# Altium integrated library Miscellaneous.IntLib: 6 symbols
Pins are listed as number, name and electrical type; pins without a type are passive.

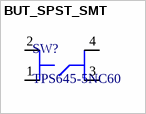
[diagram p0: symbol BUT_SPST_SMT]

## BUT_SPST_SMT
designator SW?, comment TPS645-5NC60
Tactile Switch/Push Button Switch ROHS
footprint TPS645-5NC60 (Tactile Switch/Push Button Switch ROHS)
pins: 1, 2, 3, 4


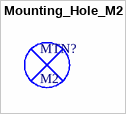
[diagram p1: symbol Mounting_Hole_M2]

## Mounting_Hole_M2
designator MTN?, comment M2
Mechanical Mounting Hole - M2


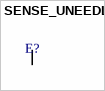
[diagram p2: symbol SENSE_UNEEDLE]

## SENSE_UNEEDLE
designator E?, comment 2.5 mm  (value not drawn)
Microneedle electrode - 2.5 mm diameter
footprint PCBComponent_1
pins: 1 E


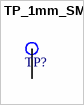
[diagram p3: symbol TP_1mm_SMT]

## TP_1mm_SMT
designator TP?, comment 1mm  (value not drawn)  (no BOM)
Test Point Pad 1 mm round
footprint Test_Point_1mm (Test Point SMT 1mm Round)
pins: 1


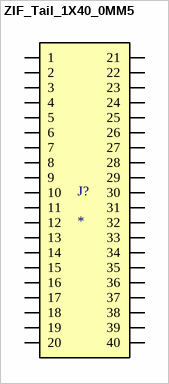
[diagram p4: symbol ZIF_Tail_1X40_0MM5]

## ZIF_Tail_1X40_0MM5
designator J?
footprint DUMMY_ZIF
pins: 1, 2, 3, 4, 5, 6, 7, 8, 9, 10, 11, 12, 13, 14, 15, 16, 17, 18, 19, 20, 21, 22, 23, 24, 25, 26, 27, 28, 29, 30, 31, 32, 33, 34, 35, 36, 37, 38, 39, 40


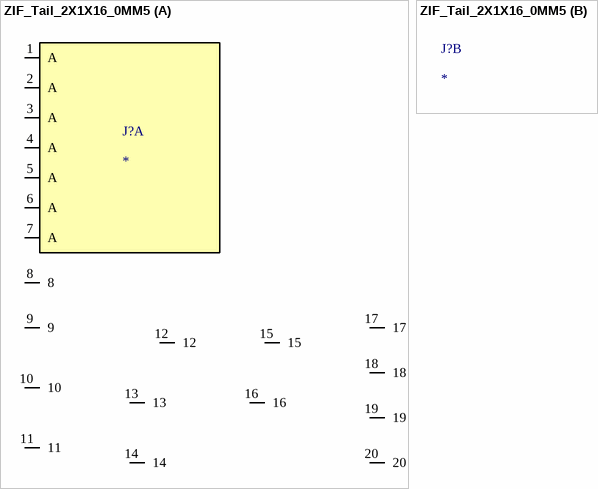
[diagram p5: symbol ZIF_Tail_2X1X16_0MM5]

## ZIF_Tail_2X1X16_0MM5
designator J?
part A pins: 1 A, 2 A, 3 A, 4 A, 5 A, 6 A, 7 A, 8, 9, 10, 11, 12, 13, 14, 15, 16, 17, 18, 19, 20